# EAGLE library part MP34DB02 (library electronic-labs)
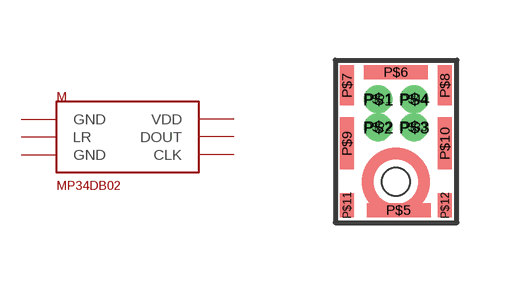
[diagram p15: symbol with the pads of MP34DB02; footprint MP34DB02]

Designator prefix M

## MP34DB02  [MP34DB02]
P$1  CLK
P$2  LR
P$3  VDD
P$4  DOUT
P$5  GND  pwr
P$6  GND  pwr

## Footprint MP34DB02 (pad centres in mm)
drill 0.2 pad 0.4: P$1 -0.45,1.05; P$2 -0.45,0.35; P$3 0.45,0.35; P$4 0.45,1.05
smd 1.6 x 0.35: P$5 0.064,-1.725; P$6 0,1.725
smd 0.35 x 1: P$7 -1.225,1.4; P$8 1.225,1.4
smd 0.35 x 1.3: P$9 -1.225,-0.05; P$10 1.225,-0.05
smd 0.35 x 0.6: P$11 -1.225,-1.6; P$12 1.225,-1.6
smd 0.6 x 0.4: P$21 -0.45,1.05; P$22 -0.45,0.35; P$33 0.45,0.35; P$44 0.45,1.05
hole 0.7 at 0,-1.016